# Altium footprint library connectors.PcbLib: 93 footprints (part 5 of 6)
Each footprint in its own frame and in the unit in brackets; x right, y up, seen from the top. Pads: shape width x height; smd on the part's side, far side on the other; paste and mask are expansions set on the pad; w line width, h text height; cw(c..) or ccw(c..) is an arc to the next point about the centre after c.
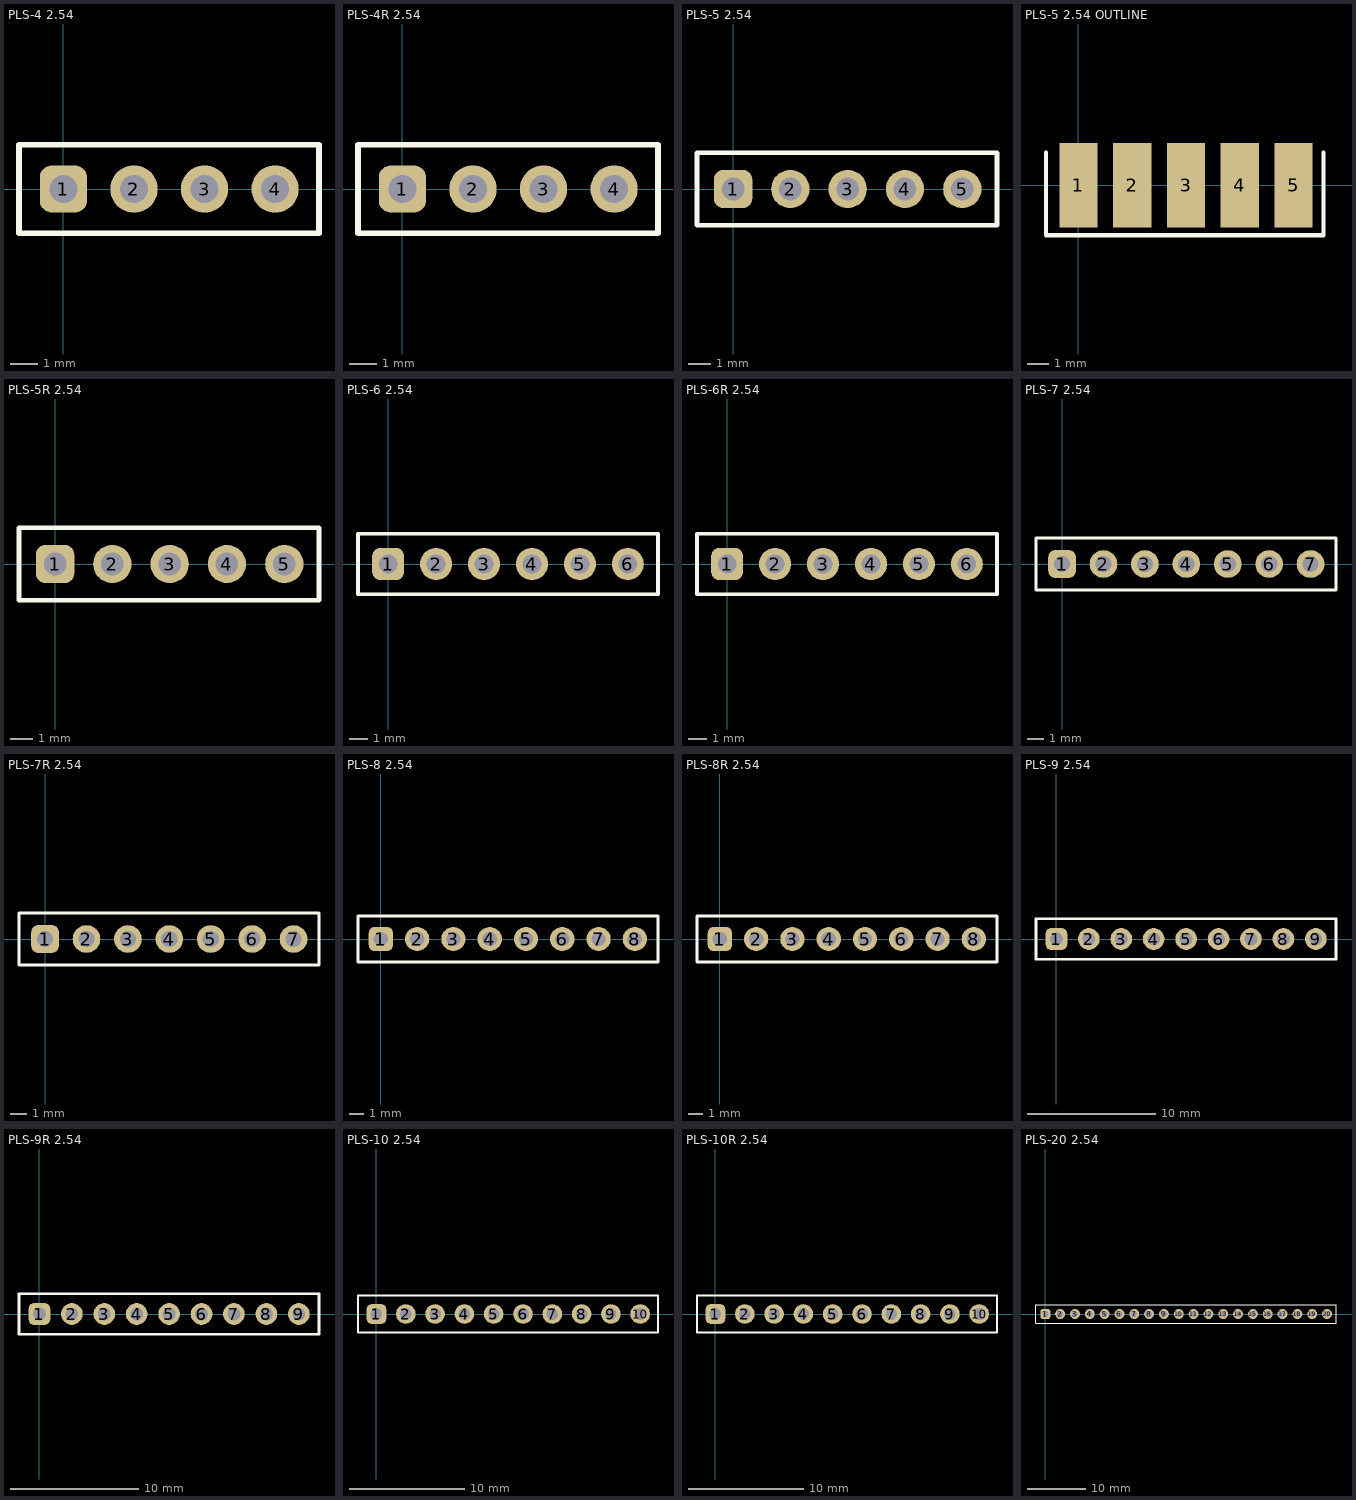
[diagram p4: the footprints below, top view; thin cyan lines are the x and y axes]

## PLS-4 2.54 [mm] "Pitch 2.54"
height 8.5
pads (4):
  rrect50% 1.7x1.7 hole 1 mask+0.1: 1(0,0)
  round 1.7 hole 1 mask+0.1: 2(2.54,0) 3(5.08,0) 4(7.62,0)
Top Overlay:
  lines w0.2: -1.6,-1.6 -1.6,1.6 9.2,1.6 9.2,-1.6 -1.6,-1.6
3D body "PLS-4.step": height 8.6, standoff -3, extent -1.27,-1.27 8.89,1.27

## PLS-4R 2.54 [mm] "Pitch 2.54"
height 8.5
pads (4):
  rrect50% 1.7x1.7 hole 1 mask+0.1: 1(0,0)
  round 1.7 hole 1 mask+0.1: 2(2.54,0) 3(5.08,0) 4(7.62,0)
Top Overlay:
  lines w0.2: -1.6,-1.6 9.2,-1.6 9.2,1.6 -1.6,1.6 -1.6,-1.6
3D body "PLS-4R-D1.step": height 2.54, standoff -3, extent -1.27,-0.32 8.89,10.04

## PLS-5 2.54 [mm] "Pitch 2.54"
height 8.5
pads (5):
  rrect50% 1.7x1.7 hole 1 mask+0.1: 1(0,0)
  round 1.7 hole 1 mask+0.1: 2(2.54,0) 3(5.08,0) 4(7.62,0) 5(10.16,0)
Top Overlay:
  lines w0.2: -1.6,-1.6 11.7,-1.6 11.7,1.6 -1.6,1.6 -1.6,-1.6
3D body "PLS-5.step": height 8.6, standoff -3, extent -1.27,-1.27 11.43,1.27

## PLS-5 2.54 OUTLINE [mm] "Pitch 2.54"
height 8.5
pads (5):
  rect 1.8x4 smd mask+0.1: 1(0,0) 2(2.54,0) 3(5.08,0) 4(7.62,0) 5(10.16,0)
Top Overlay:
  lines w0.2: -1.524,1.54 -1.524,-2.36 11.57,-2.36 11.57,1.54
3D body "HEADER_1x5_2.54.stp": height 1.67, standoff -0.87, extent -1.33,-0.46 11.37,11.08

## PLS-5R 2.54 [mm] "Pitch 2.54"
height 8.5
pads (5):
  rrect50% 1.7x1.7 hole 1 mask+0.1: 1(0,0)
  round 1.7 hole 1 mask+0.1: 2(2.54,0) 3(5.08,0) 4(7.62,0) 5(10.16,0)
Top Overlay:
  lines w0.2: -1.6,-1.6 -1.6,1.6 11.7,1.6 11.7,-1.6 -1.6,-1.6
3D body "PLS-5R-D1.step": height 2.54, standoff -3, extent -1.27,-0.32 11.43,10.04

## PLS-6 2.54 [mm] "Pitch 2.54"
height 8.5
pads (6):
  rrect50% 1.7x1.7 hole 1 mask+0.1: 1(0,0)
  round 1.7 hole 1 mask+0.1: 2(2.54,0) 3(5.08,0) 4(7.62,0) 5(10.16,0) 6(12.7,0)
Top Overlay:
  lines w0.2: -1.6,-1.6 14.3,-1.6 14.3,1.6 -1.6,1.6 -1.6,-1.6
3D body "PLS-6.step": height 8.6, standoff -3, extent -1.27,-1.27 13.97,1.27

## PLS-6R 2.54 [mm] "Pitch 2.54"
height 8.5
pads (6):
  rrect50% 1.7x1.7 hole 1 mask+0.1: 1(0,0)
  round 1.7 hole 1 mask+0.1: 2(2.54,0) 3(5.08,0) 4(7.62,0) 5(10.16,0) 6(12.7,0)
Top Overlay:
  lines w0.2: -1.6,-1.6 -1.6,1.6 14.3,1.6 14.3,-1.6 -1.6,-1.6
3D body "PLS-6R-D1.step": height 2.54, standoff -3, extent -1.27,-0.32 13.97,10.04

## PLS-7 2.54 [mm] "Pitch 2.54"
height 8.5
pads (7):
  rrect50% 1.7x1.7 hole 1 mask+0.1: 1(0,0)
  round 1.7 hole 1 mask+0.1: 2(2.54,0) 3(5.08,0) 4(7.62,0) 5(10.16,0) 6(12.7,0) 7(15.24,0)
Top Overlay:
  lines w0.2: -1.6,-1.6 16.8,-1.6 16.8,1.6 -1.6,1.6 -1.6,-1.6
3D body "PLS-7.step": height 8.6, standoff -3, extent -1.27,-1.27 16.51,1.27

## PLS-7R 2.54 [mm] "Pitch 2.54"
height 8.5
pads (7):
  rrect50% 1.7x1.7 hole 1 mask+0.1: 1(0,0)
  round 1.7 hole 1 mask+0.1: 2(2.54,0) 3(5.08,0) 4(7.62,0) 5(10.16,0) 6(12.7,0) 7(15.24,0)
Top Overlay:
  lines w0.2: -1.6,-1.6 -1.6,1.6 16.8,1.6 16.8,-1.6 -1.6,-1.6
3D body "PLS-7R-D1.step": height 2.54, standoff -3, extent -1.27,-0.32 16.51,10.04

## PLS-8 2.54 [mm] "Pitch 2.54"
height 8.5
pads (8):
  rrect50% 1.7x1.7 hole 1 mask+0.1: 1(0,0)
  round 1.7 hole 1 mask+0.1: 2(2.54,0) 3(5.08,0) 4(7.62,0) 5(10.16,0) 6(12.7,0) 7(15.24,0) 8(17.78,0)
Top Overlay:
  lines w0.2: -1.6,-1.6 -1.6,1.6 19.4,1.6 19.4,-1.6 -1.6,-1.6
3D body "PLS-8.step": height 8.6, standoff -3, extent -1.27,-1.27 19.05,1.27

## PLS-8R 2.54 [mm] "Pitch 2.54"
height 8.5
pads (8):
  rrect50% 1.7x1.7 hole 1 mask+0.1: 1(0,0)
  round 1.7 hole 1 mask+0.1: 2(2.54,0) 3(5.08,0) 4(7.62,0) 5(10.16,0) 6(12.7,0) 7(15.24,0) 8(17.78,0)
Top Overlay:
  lines w0.2: -1.6,-1.6 19.4,-1.6 19.4,1.6 -1.6,1.6 -1.6,-1.6
3D body "PLS-8R-D1.step": height 2.54, standoff -3, extent -1.27,-0.32 19.05,10.04

## PLS-9 2.54 [mm] "Pitch 2.54"
height 8.5
pads (9):
  rrect50% 1.7x1.7 hole 1 mask+0.1: 1(0,0)
  round 1.7 hole 1 mask+0.1: 2(2.54,0) 3(5.08,0) 4(7.62,0) 5(10.16,0) 6(12.7,0) 7(15.24,0) 8(17.78,0) 9(20.32,0)
Top Overlay:
  lines w0.2: -1.6,-1.6 21.9,-1.6 21.9,1.6 -1.6,1.6 -1.6,-1.6
3D body "PLS-9.step": height 8.6, standoff -3, extent -1.27,-1.27 21.59,1.27

## PLS-9R 2.54 [mm] "Pitch 2.54"
height 8.5
pads (9):
  rrect50% 1.7x1.7 hole 1 mask+0.1: 1(0,0)
  round 1.7 hole 1 mask+0.1: 2(2.54,0) 3(5.08,0) 4(7.62,0) 5(10.16,0) 6(12.7,0) 7(15.24,0) 8(17.78,0) 9(20.32,0)
Top Overlay:
  lines w0.2: -1.6,-1.6 21.9,-1.6 21.9,1.6 -1.6,1.6 -1.6,-1.6
3D body "PLS-9.step": height 8.6, standoff -3, extent -1.27,-1.27 21.59,1.27

## PLS-10 2.54 [mm] "Pitch 2.54"
height 8.5
pads (10):
  rrect50% 1.7x1.7 hole 1 mask+0.1: 1(0,0)
  round 1.7 hole 1 mask+0.1: 2(2.54,0) 3(5.08,0) 4(7.62,0) 5(10.16,0) 6(12.7,0) 7(15.24,0) 8(17.78,0) 9(20.32,0) 10(22.86,0)
Top Overlay:
  lines w0.2: -1.6,-1.6 24.4,-1.6 24.4,1.6 -1.6,1.6 -1.6,-1.6
3D body "HEADER_1x10_2.54.stp": height 8.54, standoff -3, extent -1.27,-1.27 24.13,1.27

## PLS-10R 2.54 [mm] "Pitch 2.54"
height 8.5
pads (10):
  rrect50% 1.7x1.7 hole 1 mask+0.1: 1(0,0)
  round 1.7 hole 1 mask+0.1: 2(2.54,0) 3(5.08,0) 4(7.62,0) 5(10.16,0) 6(12.7,0) 7(15.24,0) 8(17.78,0) 9(20.32,0) 10(22.86,0)
Top Overlay:
  lines w0.2: -1.6,-1.6 24.4,-1.6 24.4,1.6 -1.6,1.6 -1.6,-1.6
3D body "PLS-10R-D1.step": height 2.54, standoff -3, extent -1.27,-0.32 24.13,10.04

## PLS-20 2.54 [mm] "Pitch 2.54"
height 8.5
pads (20):
  rrect50% 1.7x1.7 hole 1 mask+0.1: 1(0,0)
  round 1.7 hole 1 mask+0.1: 2(2.54,0) 3(5.08,0) 4(7.62,0) 5(10.16,0) 6(12.7,0) 7(15.24,0) 8(17.78,0) 9(20.32,0) 10(22.86,0) 11(25.4,0) 12(27.94,0) 13(30.48,0) 14(33.02,0) 15(35.56,0) 16(38.1,0) 17(40.64,0) 18(43.18,0) 19(45.72,0) 20(48.26,0)
Top Overlay:
  lines w0.2: -1.6,-1.6 49.8,-1.6 49.8,1.6 -1.6,1.6 -1.6,-1.6
3D body "PLS-20.step": height 8.6, standoff -3, extent -1.27,-1.27 49.53,1.27